# Altium schematic symbol library ESP32.SchLib: 3 symbols
Pins are listed as number, name and electrical type; pins without a type are passive.

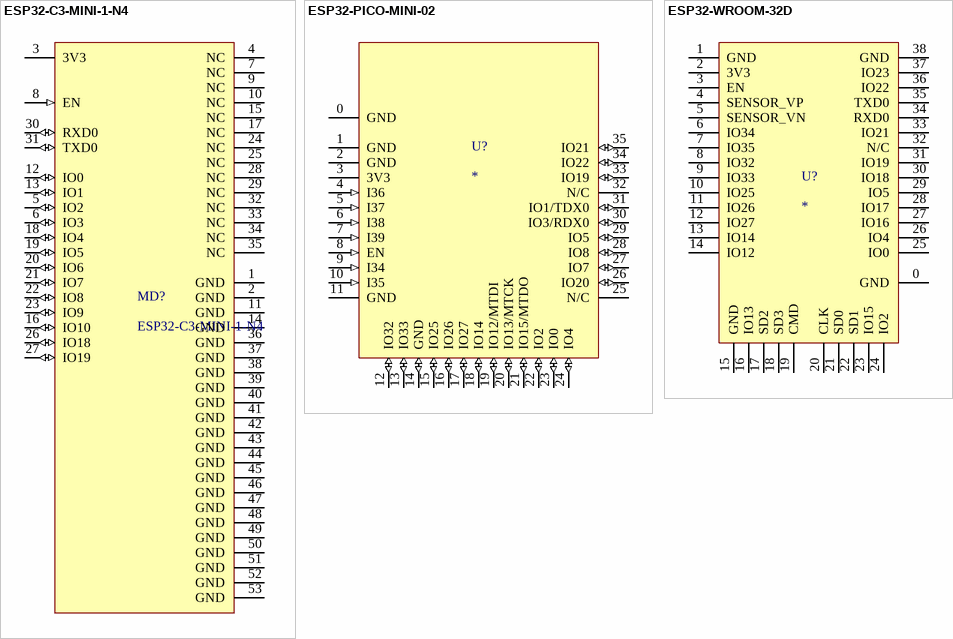
[diagram p0: symbols ESP32-C3-MINI-1-N4 to ESP32-WROOM-32D]

## ESP32-C3-MINI-1-N4
designator MD?
pins: 1 GND (power), 2 GND (power), 3 3V3 (power), 4 NC, 5 IO2 (io), 6 IO3 (io), 7 NC, 8 EN (in), 9 NC, 10 NC, 11 GND (power), 12 IO0 (io), 13 IO1 (io), 14 GND (power), 15 NC, 16 IO10 (io), 17 NC, 18 IO4 (io), 19 IO5 (io), 20 IO6 (io), 21 IO7 (io), 22 IO8 (io), 23 IO9 (io), 24 NC, 25 NC, 26 IO18 (io), 27 IO19 (io), 28 NC, 29 NC, 30 RXD0 (io), 31 TXD0 (io), 32 NC, 33 NC, 34 NC, 35 NC, 36 GND (power), 37 GND (power), 38 GND (power), 39 GND (power), 40 GND (power), 41 GND (power), 42 GND (power), 43 GND (power), 44 GND (power), 45 GND (power), 46 GND (power), 47 GND (power), 48 GND (power), 49 GND (power), 50 GND (power), 51 GND (power), 52 GND (power), 53 GND (power)

## ESP32-PICO-MINI-02
designator U?
pins: 0 GND (power), 1 GND (power), 2 GND (power), 3 3V3 (power), 4 I36 (in), 5 I37 (in), 6 I38 (in), 7 I39 (in), 8 EN (in), 9 I34 (in), 10 I35 (in), 11 GND (power), 12 IO32 (io), 13 IO33 (io), 14 GND (io), 15 IO25 (io), 16 IO26 (io), 17 IO27 (io), 18 IO14 (io), 19 IO12/MTDI (io), 20 IO13/MTCK (io), 21 IO15/MTDO (io), 22 IO2 (io), 23 IO0 (io), 24 IO4 (io), 25 N/C, 26 IO20 (io), 27 IO7 (io), 28 IO8 (io), 29 IO5 (io), 30 IO3/RDX0 (io), 31 IO1/TDX0 (io), 32 N/C, 33 IO19 (io), 34 IO22 (io), 35 IO21 (io)

## ESP32-WROOM-32D
designator U?
footprint ESP32-WROOM-32D
pins: 0 GND, 1 GND, 2 3V3, 3 EN, 4 SENSOR_VP, 5 SENSOR_VN, 6 IO34, 7 IO35, 8 IO32, 9 IO33, 10 IO25, 11 IO26, 12 IO27, 13 IO14, 14 IO12, 15 GND, 16 IO13, 17 SD2, 18 SD3, 19 CMD, 20 CLK, 21 SD0, 22 SD1, 23 IO15, 24 IO2, 25 IO0, 26 IO4, 27 IO16, 28 IO17, 29 IO5, 30 IO18, 31 IO19, 32 N/C, 33 IO21, 34 RXD0, 35 TXD0, 36 IO22, 37 IO23, 38 GND